# Altium schematic symbol library Cap_Nichicon_UWX1E101MCL1GB_eec.SchLib: 1 symbol
Pins are listed as number, name and electrical type; pins without a type are passive.

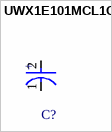
[diagram p0: symbol UWX1E101MCL1GB]

## UWX1E101MCL1GB
designator C?  (value not drawn)
pins: 1 C, 2 A
text: +